# EAGLE library part RDUP-880-915M-925-960M-4217-3W-S-J (library laforge)
Raditek Ceramic Duplexer 880-915MHz / 925-960MHz, Model 4216, 3 Watts, Surface Mount
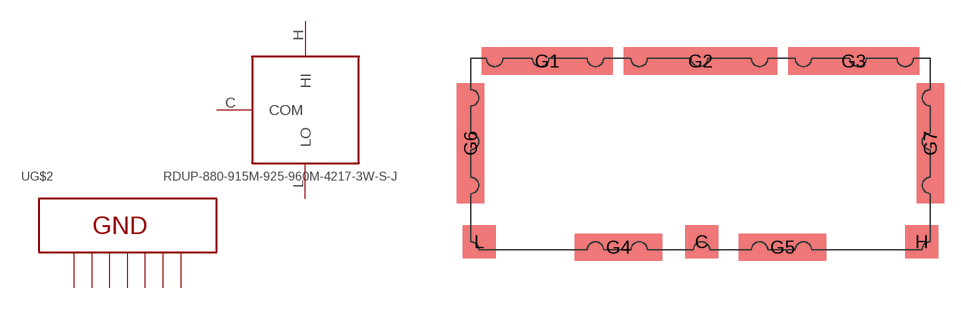
[diagram p31: symbol with the pads of RADITEK_4217; footprint RADITEK_4217]

Designator prefix -; gates G$1=CER_DUP G$2=RDUP_4217_GND

## RDUP-880-915M-925-960M-4217-3W-S-J  [RADITEK_4217]
C  G$1:COM
G1  G$2:P$1
G2  G$2:P$2
G3  G$2:P$3
G4  G$2:P$4
G5  G$2:P$5
G6  G$2:P$6
G7  G$2:P$7
H  G$1:HI
L  G$1:LO

## Footprint RADITEK_4217 (pad centres in mm)
smd 3 x 3: C 0.1,-8; H 20.2,-8; L -20.2,-8
smd 12 x 2.5: G1 -14,8.5; G3 14,8.5
smd 14 x 2.5: G2 0,8.5
smd 8 x 2.5: G4 -7.5,-8.5; G5 7.5,-8.5
smd 2.5 x 11: G6 -21,1; G7 21,1